# Altium schematic symbol library MYS-Library.SchLib: 107 symbols
Pins are listed as number, name and electrical type; pins without a type are passive.

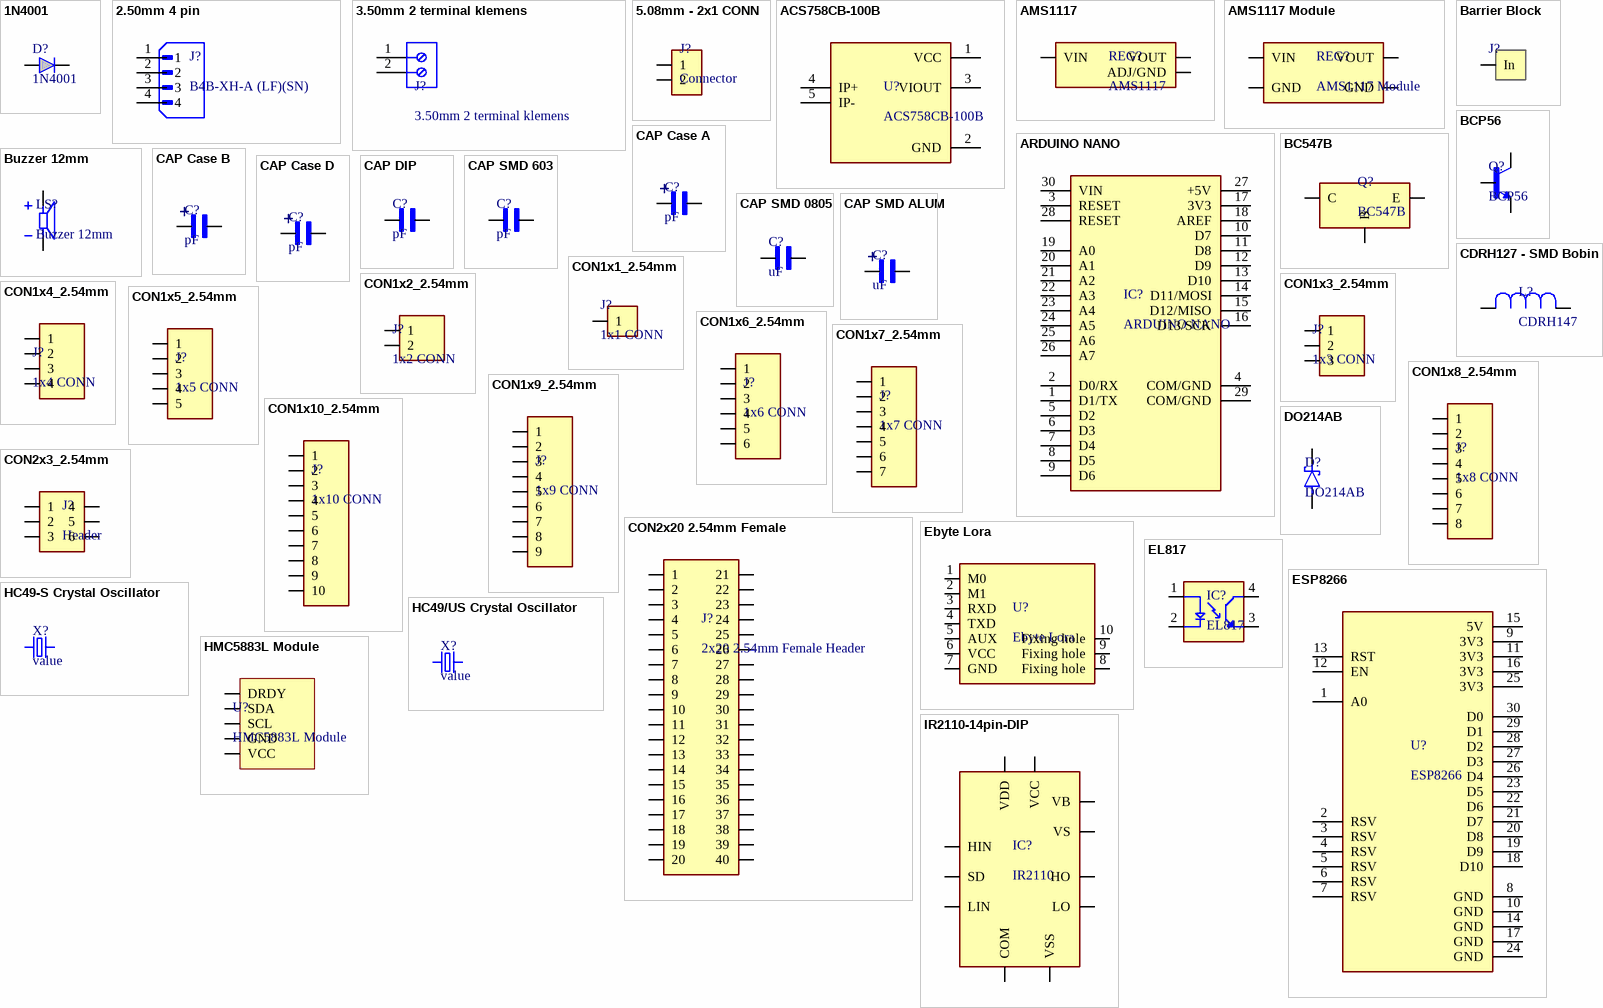
[diagram p0: symbols 1N4001 to IR2110-14pin-DIP]

## 1N4001
designator D?
Diode
footprint 1N4001
pins: A ANODE, C CATHODE

## 2.50mm 4 pin
designator J?, comment B4B-XH-A (LF)(SN)
footprint B4B-XH-A (LF)(SN)
pins: 1, 2, 3, 4

## 3.50mm 2 terminal klemens
designator J?
footprint 3.50mm 2 terminal klemens
pins: 1, 2

## 5.08mm - 2x1 CONN
designator J?, comment Connector
Konnektör
footprint 5.08mm-2 connector
pins: 1, 2

## ACS758CB-100B
designator U?
footprint ACS758CB-100B
pins: 1 VCC, 2 GND, 3 VIOUT, 4 IP+, 5 IP-

## AMS1117
designator REG?
footprint SOT-223
pins: 1 ADJ/GND (power), 2 VOUT, 3 VIN

## AMS1117 Module
designator REG?
footprint AMS117 Module
pins: 1 GND, 2 VOUT, 3 VIN, 4 GND

## ARDUINO NANO
designator IC?
footprint ARDUINO NANO
pins: 1 D1/TX, 2 D0/RX, 3 RESET, 4 COM/GND, 5 D2, 6 D3, 7 D4, 8 D5, 9 D6, 10 D7, 11 D8, 12 D9, 13 D10, 14 D11/MOSI, 15 D12/MISO, 16 D13/SCK, 17 3V3, 18 AREF, 19 A0, 20 A1, 21 A2, 22 A3, 23 A4, 24 A5, 25 A6, 26 A7, 27 +5V, 28 RESET, 29 COM/GND, 30 VIN

## Barrier Block
designator J?  (value not drawn)
footprint Barrier Block
pins: 0 In

## BC547B
designator Q?
footprint TO-226 TO-92
pins: 1 C, 2 B, 3 E

## BCP56
designator Q?
footprint SOT-223
pins: 1 B, 2 C, 3 E, 4 C

## Buzzer 12mm
designator LS?
footprint Buzzer 12V
pins: N, P

## CAP Case A
designator C?, comment pF
footprint CAP CASE A
pins: 1, 2
text: +

## CAP Case B
designator C?, comment pF
footprint CAP CASE B
pins: 1, 2
text: +

## CAP Case D
designator C?, comment pF
footprint CAP CASE D
pins: 1, 2
text: +

## CAP DIP
designator C?, comment pF
footprint CER-DIP-CAP
footprint CER-DIP-CAP-2
pins: 1, 2

## CAP SMD 603
designator C?, comment pF
footprint 0603 SMD CAP
pins: 1, 2

## CAP SMD 0805
designator C?, comment uF
footprint 0805 SMD CAP
pins: 1, 2

## CAP SMD ALUM
designator C?, comment uF
footprint SMD CAP ALUM (10x10mm)
pins: 1, 2
text: +

## CDRH127 - SMD Bobin
designator L?, comment CDRH147
footprint CDRH147
pins: 1, 2

## CON1x1_2.54mm
designator J?, comment 1x1 CONN
footprint CON1x1_2.54MM
pins: 1

## CON1x2_2.54mm
designator J?, comment 1x2 CONN
footprint CON1x2_2.54MM
pins: 1, 2

## CON1x3_2.54mm
designator J?, comment 1x3 CONN
footprint CON1x3_2.54MM
pins: 1, 2, 3

## CON1x4_2.54mm
designator J?, comment 1x4 CONN
footprint CON1x4_2.54MM
pins: 1, 2, 3, 4

## CON1x5_2.54mm
designator J?, comment 1x5 CONN
footprint CON1x5_2.54MM
pins: 1, 2, 3, 4, 5

## CON1x6_2.54mm
designator J?, comment 1x6 CONN
footprint CON1x6_2.54MM
pins: 1, 2, 3, 4, 5, 6

## CON1x7_2.54mm
designator J?, comment 1x7 CONN
footprint CON1x7_2.54MM
pins: 1, 2, 3, 4, 5, 6, 7

## CON1x8_2.54mm
designator J?, comment 1x8 CONN
footprint CON1x8_2.54MM
pins: 1, 2, 3, 4, 5, 6, 7, 8

## CON1x9_2.54mm
designator J?, comment 1x9 CONN
footprint CON1x9_2.54MM
pins: 1, 2, 3, 4, 5, 6, 7, 8, 9

## CON1x10_2.54mm
designator J?, comment 1x10 CONN
footprint CON1x10_2.54MM
pins: 1, 2, 3, 4, 5, 6, 7, 8, 9, 10

## CON2x3_2.54mm
designator J?, comment Header
footprint CON2x3_2.54MM
pins: 1, 2, 3, 4, 5, 6

## CON2x20 2.54mm Female
designator J?, comment 2x20 2.54mm Female Header
footprint 2x20 2.54mm Header Female
pins: 1, 2, 3, 4, 5, 6, 7, 8, 9, 10, 11, 12, 13, 14, 15, 16, 17, 18, 19, 20, 21, 22, 23, 24, 25, 26, 27, 28, 29, 30, 31, 32, 33, 34, 35, 36, 37, 38, 39, 40

## DO214AB
designator D?
footprint DO214AB
pins: A, C K

## Ebyte Lora
designator U?
footprint Ebyte LoRa Modul
pins: 1 M0, 2 M1, 3 RXD, 4 TXD, 5 AUX, 6 VCC, 7 GND, 8 Fixing hole "Fixing hole, bağlantı yapılmayacak.", 9 Fixing hole "Fixing hole, bağlantı yapılmayacak.", 10 Fixing hole "Fixing hole, bağlantı yapılmayacak."

## EL817
designator IC?
footprint DIP-4
pins: 1 A, 2 C, 3 ET, 4 CT

## ESP8266
designator U?
footprint ESP8266 Module
pins: 1 A0, 2 RSV, 3 RSV, 4 RSV, 5 RSV, 6 RSV, 7 RSV, 8 GND, 9 3V3, 10 GND, 11 3V3, 12 EN, 13 RST, 14 GND, 15 5V, 16 3V3, 17 GND, 18 D10, 19 D9, 20 D8, 21 D7, 22 D6, 23 D5, 24 GND, 25 3V3, 26 D4, 27 D3, 28 D2, 29 D1, 30 D0

## HC49-S Crystal Oscillator
designator X?, comment value
footprint HC49-S Crystal Oscillator
pins: 1, 2

## HC49/US Crystal Oscillator
designator X?, comment value
footprint HC49/US Crystal Oscillator
pins: 1, 2

## HMC5883L Module
designator U?
footprint HMC5883L Module
pins: 1 DRDY, 2 SDA, 3 SCL, 4 GND, 5 VCC

## IR2110-14pin-DIP
designator IC?, comment IR2110
footprint DIP-14
pins: 1 LO, 2 COM, 3 VCC (power), 5 VS (power), 6 VB (power), 7 HO, 9 VDD (power), 10 HIN, 11 SD, 12 LIN, 13 VSS (power)

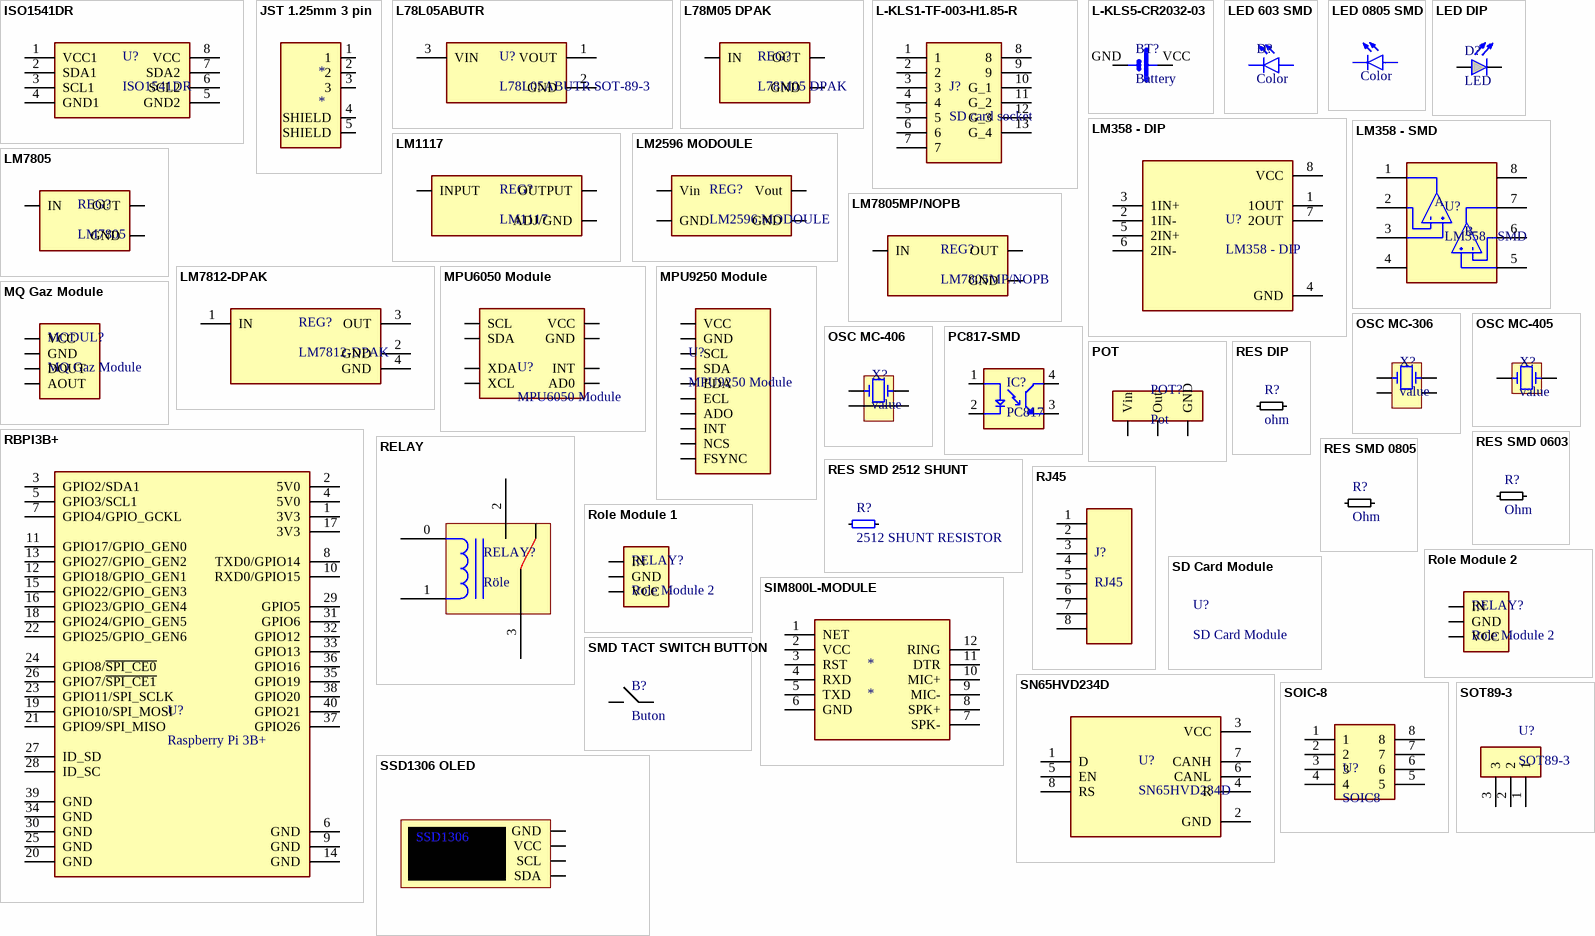
[diagram p1: symbols ISO1541DR to SSD1306 OLED]

## ISO1541DR
designator U?
footprint SOIC-8
pins: 1 VCC1, 2 SDA1, 3 SCL1, 4 GND1, 5 GND2, 6 SCL2, 7 SDA2, 8 VCC

## JST 1.25mm 3 pin
designator *
footprint JST 1.25mm 3 pin
pins: 1, 2, 3, 4 SHIELD, 5 SHIELD

## L78L05ABUTR
designator U?, comment L78L05ABUTR SOT-89-3
footprint SOT89-3
pins: 1 VOUT, 2 GND, 3 VIN

## L78M05 DPAK
designator REG?
footprint TO-252 DPAK
pins: 1 IN, 3 OUT, 4 GND (power)

## L-KLS1-TF-003-H1.85-R
designator J?, comment SD card socket
footprint L-KLS1-TF-003-H1.85-R
pins: 1, 2, 3, 4, 5, 6, 7, 8, 9, 10 G_1, 11 G_2, 12 G_3, 13 G_4

## L-KLS5-CR2032-03
designator BT?, comment Battery
footprint L-KLS5-CR2032-03
pins: GND NEG, VCC POS

## LED 603 SMD
designator D?, comment Color
footprint 0603 SMD LED
pins: A, C

## LED 0805 SMD
designator D?, comment Color
footprint 0805 SMD LED
pins: A, C

## LED DIP
designator D?, comment LED
footprint LED DIP
pins: A, C

## LM358 - DIP
designator U?
footprint PDIP-8
pins: 1 1OUT, 2 1IN-, 3 1IN+, 4 GND, 5 2IN+, 6 2IN-, 7 2OUT, 8 VCC

## LM358 - SMD
designator U?
footprint SOIC-8
pins: 1 OUT1, 2 IN1-, 3 IN1+, 4 V-, 5 IN2+, 6 IN2-, 7 OUT2, 8 V+
text: A; B

## LM1117
designator REG?
footprint TO-220
pins: 1 ADJ/GND (power), 2 OUTPUT, 3 INPUT

## LM2596 MODOULE
designator REG?
footprint LM2596 MODULE
pins: 0 GND, 1 Vout, 2 GND, 3 Vin

## LM7805
designator REG?
footprint TO-220
pins: 1 IN, 2 GND (power), 3 OUT

## LM7805MP/NOPB
designator REG?
footprint SOT-223
pins: 1 IN (power), 2 GND, 3 OUT

## LM7812-DPAK
designator REG?
footprint TO-263-3
pins: 1 IN, 2 GND, 3 OUT, 4 GND

## MPU6050 Module
designator U?
footprint MPU6050 MODULE
footprint MPU6050 MODULE_PITCH
pins: AD0, GND, INT, SCL, SDA, VCC, XCL, XDA

## MPU9250 Module
designator U?
footprint MPU9250 Module
footprint MPU9250 Module_PITCH
pins: 0 FSYNC, 1 NCS, 2 INT, 3 ADO, 4 ECL, 5 EDA, 6 SDA, 7 SCL, 8 GND, 9 VCC

## MQ Gaz Module
designator MODUL?
footprint MQ Gaz Module
footprint MQ Gaz Module PITCH
pins: 1 VCC, 2 GND, 3 DOUT, 4 AOUT

## OSC MC-306
designator X?, comment value
32.768Khz
footprint 4-SOJ MC-306 (32.768 kHz ±100ppm Crystal 12.5pF 35 kOhms 4-SOJ, 5.50mm pitch)
pins: 1, 2, 3, 4

## OSC MC-405
designator X?, comment value
32.768Khz
footprint 4-SOJ MC-405 (32.768 kHz ±20ppm Crystal 12.5pF 50 kOhms 4-SOJ, 2.29mm pitch)
pins: 1, 2

## OSC MC-406
designator X?, comment value
32.768Khz
footprint 4-SOJ MC-406 (32.768 kHz ±20ppm Crystal 12.5pF 50 kOhms 4-SOJ, 2.29mm pitch / (mm) 8.00x3.80x2.50)
pins: 1, 2, 3, 4

## PC817-SMD
designator IC?, comment PC817
footprint SMD-4 (PC817 - SMD)
pins: 1 A, 2 C, 3 ET, 4 CT

## POT
designator POT?, comment Pot
footprint POT
pins: 1 Vin, 2 Out, 3 GND

## RBPI3B+
designator U?, comment Raspberry Pi 3B+
footprint RBPIWSOCKET
footprint RBPI3B+
pins: 1 3V3, 2 5V0, 3 GPIO2/SDA1, 4 5V0, 5 GPIO3/SCL1, 6 GND, 7 GPIO4/GPIO_GCKL, 8 TXD0/GPIO14, 9 GND, 10 RXD0/GPIO15, 11 GPIO17/GPIO_GEN0, 12 GPIO18/GPIO_GEN1, 13 GPIO27/GPIO_GEN2, 14 GND, 15 GPIO22/GPIO_GEN3, 16 GPIO23/GPIO_GEN4, 17 3V3, 18 GPIO24/GPIO_GEN5, 19 GPIO10/SPI_MOSI, 20 GND, 21 GPIO9/SPI_MISO, 22 GPIO25/GPIO_GEN6, 23 GPIO11/SPI_SCLK, 24 GPIO8/~{SPI_CE0}, 25 GND, 26 GPIO7/~{SPI_CE1}, 27 ID_SD, 28 ID_SC, 29 GPIO5, 30 GND, 31 GPIO6, 32 GPIO12, 33 GPIO13, 34 GND, 35 GPIO19, 36 GPIO16, 37 GPIO26, 38 GPIO20, 39 GND, 40 GPIO21

## RELAY
designator RELAY?, comment Röle
pins: 0, 1, 2, 3

## RES DIP
designator R?, comment ohm
footprint RES DIP
pins: 1, 2

## RES SMD 0603
designator R?, comment Ohm
footprint 0603 SMD RES
pins: 1, 2

## RES SMD 0805
designator R?, comment Ohm
footprint 0805 SMD RES
pins: 1, 2

## RES SMD 2512 SHUNT
designator R?, comment 2512 SHUNT RESISTOR
footprint RES 2512 SMD
pins: 1, 2

## RJ45
designator J?
footprint RJ45
pins: 1, 2, 3, 4, 5, 6, 7, 8

## Role Module 1
designator RELAY?, comment Role Module 2
footprint ROLE MODULE 2
pins: 1 IN, 2 GND, 3 VCC

## Role Module 2
designator RELAY?
footprint Role Module 1
pins: 1 IN, 2 GND, 3 VCC

## SD Card Module
designator U?

## SIM800L-MODULE
designator *
footprint SIM800L-MODULE
pins: 1 NET, 2 VCC, 3 RST, 4 RXD, 5 TXD, 6 GND, 7 SPK-, 8 SPK+, 9 MIC-, 10 MIC+, 11 DTR, 12 RING

## SMD TACT SWITCH BUTTON
designator B?, comment Buton
footprint SMD TACT SWITCH BUTTON
pins: 0, 1

## SN65HVD234D
designator U?
footprint SOIC-8
pins: 1 D, 2 GND, 3 VCC, 4 R, 5 EN, 6 CANL, 7 CANH, 8 RS

## SOIC-8
designator U?, comment SOIC8
footprint SOIC-8
pins: 1, 2, 3, 4, 5, 6, 7, 8

## SOT89-3
designator U?
pins: 1, 2, 3

## SSD1306 OLED
designator IC?, comment SSD1306 128*32 0.91"
footprint SSD1306 128x32
footprint SSD1306 128x64
pins: 1 GND, 2 VCC, 3 SCL, 4 SDA
text: SSD1306

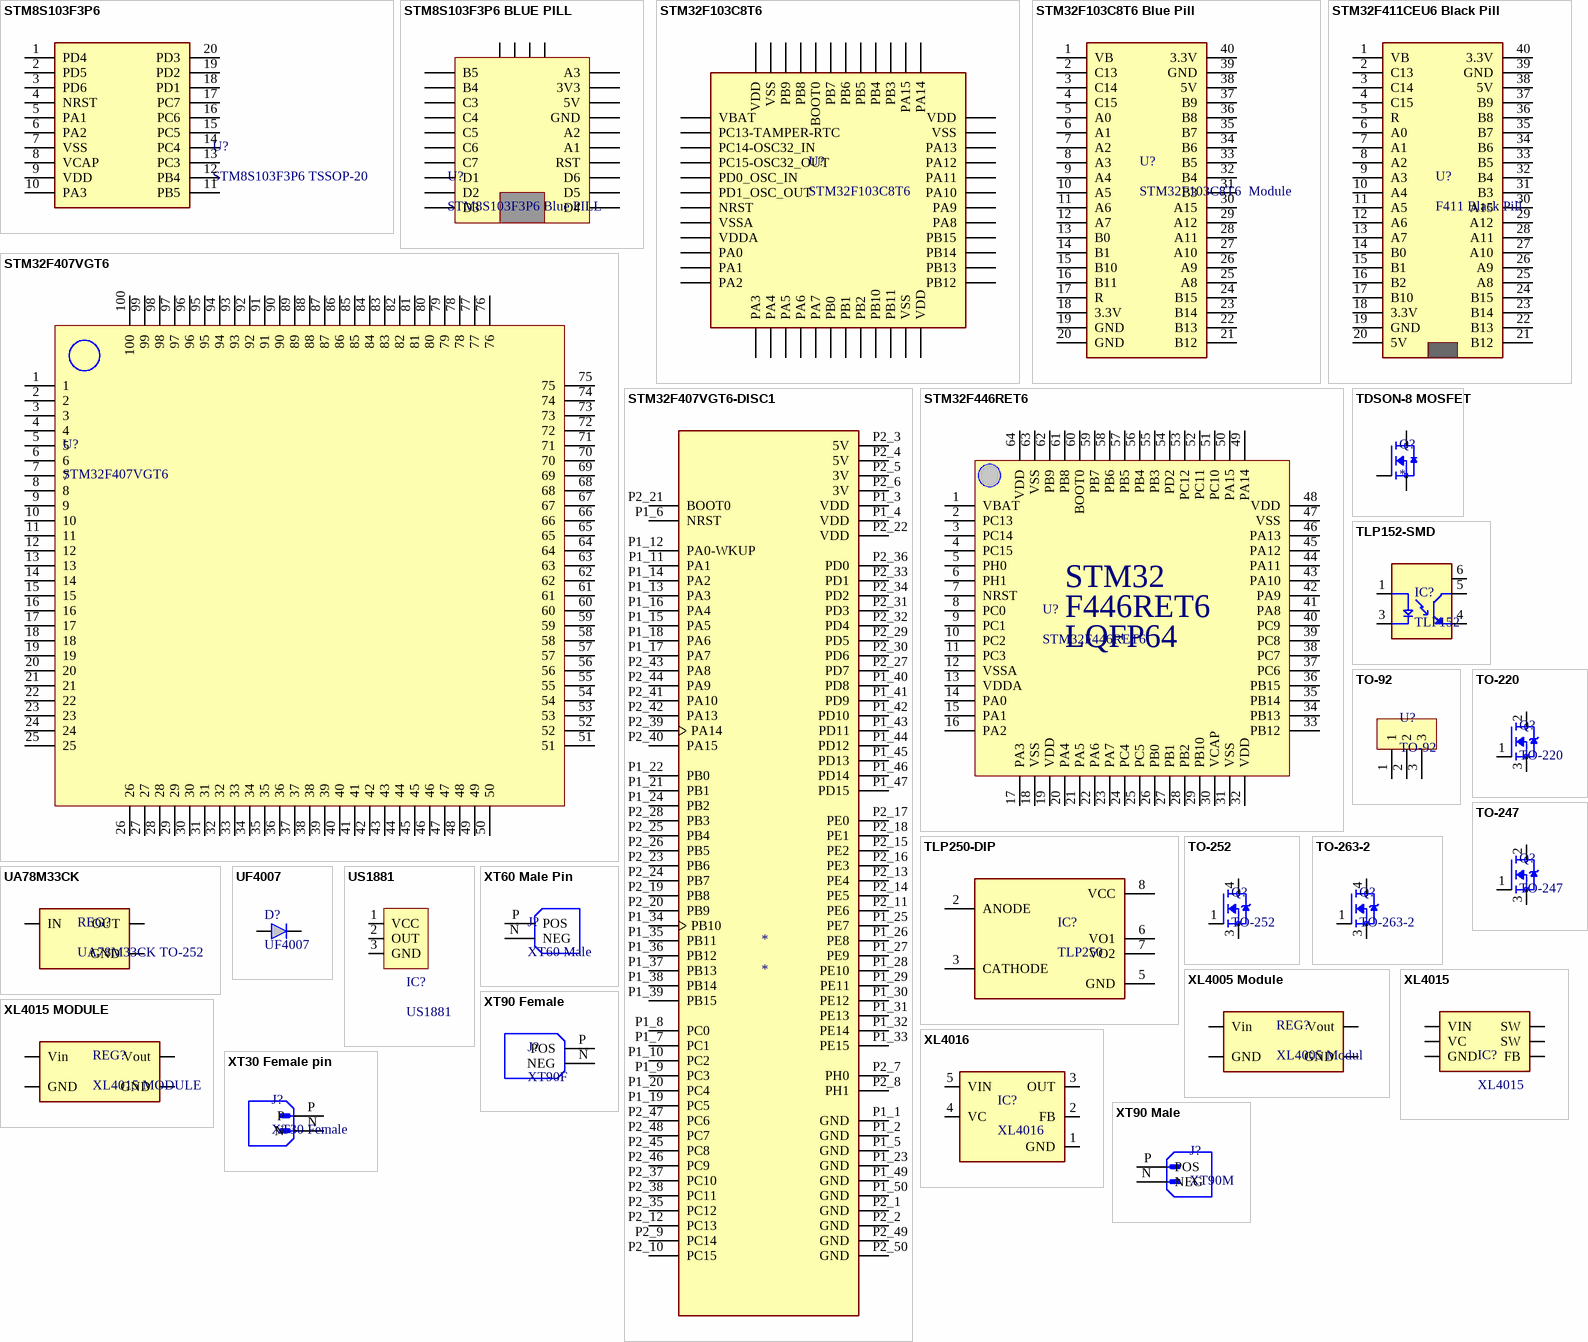
[diagram p2: symbols STM8S103F3P6 to XT90 Male]

## STM8S103F3P6
designator U?, comment STM8S103F3P6 TSSOP-20
footprint TSSOP-20
pins: 1 PD4, 2 PD5, 3 PD6, 4 NRST, 5 PA1, 6 PA2, 7 VSS, 8 VCAP, 9 VDD, 10 PA3, 11 PB5, 12 PB4, 13 PC3, 14 PC4, 15 PC5, 16 PC6, 17 PC7, 18 PD1, 19 PD2, 20 PD3

## STM8S103F3P6 BLUE PILL
designator U?, comment STM8S103F3P6 Blue PILL
footprint STM8S103F3P6 BLUE PILL
pins: 1 B5, 2 B4, 3 C3, 4 C4, 5 C5, 6 C6, 7 C7, 8 D1, 9 D2, 10 D3, 11 A3, 12 3V3, 13 5V, 14 GND, 15 A2, 16 A1, 17 RST, 18 D6, 19 D5, 20 D4

## STM32F103C8T6
designator U?
footprint LQFP-48
pins: 1 VBAT, 2 PC13-TAMPER-RTC, 3 PC14-OSC32_IN, 4 PC15-OSC32_OUT, 5 PD0_OSC_IN, 6 PD1_OSC_OUT, 7 NRST, 8 VSSA, 9 VDDA, 10 PA0, 11 PA1, 12 PA2, 13 PA3, 14 PA4, 15 PA5, 16 PA6, 17 PA7, 18 PB0, 19 PB1, 20 PB2, 21 PB10, 22 PB11, 23 VSS, 24 VDD, 25 PB12, 26 PB13, 27 PB14, 28 PB15, 29 PA8, 30 PA9, 31 PA10, 32 PA11, 33 PA12, 34 PA13, 35 VSS, 36 VDD, 37 PA14, 38 PA15, 39 PB3, 40 PB4, 41 PB5, 42 PB6, 43 PB7, 44 BOOT0, 45 PB8, 46 PB9, 47 VSS, 48 VDD

## STM32F103C8T6 Blue Pill
designator U?, comment STM32F103C8T6  Module
footprint STM32F103C8T6 Blue Pill
footprint STM32F103C8T6 Blue Pill PITCH
pins: 1 VB, 2 C13, 3 C14, 4 C15, 5 A0, 6 A1, 7 A2, 8 A3, 9 A4, 10 A5, 11 A6, 12 A7, 13 B0, 14 B1, 15 B10, 16 B11, 17 R, 18 3.3V, 19 GND, 20 GND, 21 B12, 22 B13, 23 B14, 24 B15, 25 A8, 26 A9, 27 A10, 28 A11, 29 A12, 30 A15, 31 B3, 32 B4, 33 B5, 34 B6, 35 B7, 36 B8, 37 B9, 38 5V, 39 GND, 40 3.3V

## STM32F407VGT6
designator U?
footprint LQFP-100
pins: 1, 2, 3, 4, 5, 6, 7, 8, 9, 10, 11, 12, 13, 14, 15, 16, 17, 18, 19, 20, 21, 22, 23, 24, 25, 26, 27, 28, 29, 30, 31, 32, 33, 34, 35, 36, 37, 38, 39, 40, 41, 42, 43, 44, 45, 46, 47, 48, 49, 50, 51, 52, 53, 54, 55, 56, 57, 58, 59, 60, 61, 62, 63, 64, 65, 66, 67, 68, 69, 70, 71, 72, 73, 74, 75, 76, 77, 78, 79, 80, 81, 82, 83, 84, 85, 86, 87, 88, 89, 90, 91, 92, 93, 94, 95, 96, 97, 98, 99, 100

## STM32F407VGT6-DISC1
designator *
footprint STM32F407VGT6-DISC1
pins: P1_1 GND, P1_2 GND, P1_3 VDD, P1_4 VDD, P1_5 GND, P1_6 NRST, P1_7 PC1, P1_8 PC0, P1_9 PC3, P1_10 PC2, P1_11 PA1, P1_12 PA0-WKUP, P1_13 PA3, P1_14 PA2, P1_15 PA5, P1_16 PA4, P1_17 PA7, P1_18 PA6, P1_19 PC5, P1_20 PC4, P1_21 PB1, P1_22 PB0, P1_23 GND, P1_24 PB2, P1_25 PE7, P1_26 PE8, P1_27 PE9, P1_28 PE10, P1_29 PE11, P1_30 PE12, P1_31 PE13, P1_32 PE14, P1_33 PE15, P1_34 PB10, P1_35 PB11, P1_36 PB12, P1_37 PB13, P1_38 PB14, P1_39 PB15, P1_40 PD8, P1_41 PD9, P1_42 PD10, P1_43 PD11, P1_44 PD12, P1_45 PD13, P1_46 PD14, P1_47 PD15, P1_49 GND, P1_50 GND, P2_1 GND, P2_2 GND, P2_3 5V, P2_4 5V, P2_5 3V, P2_6 3V, P2_7 PH0, P2_8 PH1, P2_9 PC14, P2_10 PC15, P2_11 PE6, P2_12 PC13, P2_13 PE4, P2_14 PE5, P2_15 PE2, P2_16 PE3, P2_17 PE0, P2_18 PE1, P2_19 PB8, P2_20 PB9, P2_21 BOOT0, P2_22 VDD, P2_23 PB6, P2_24 PB7, P2_25 PB4, P2_26 PB5, P2_27 PD7, P2_28 PB3, P2_29 PD5, P2_30 PD6, P2_31 PD3, P2_32 PD4, P2_33 PD1, P2_34 PD2, P2_35 PC12, P2_36 PD0, P2_37 PC10, P2_38 PC11, P2_39 PA14, P2_40 PA15, P2_41 PA10, P2_42 PA13, P2_43 PA8, P2_44 PA9, P2_45 PC8, P2_46 PC9, P2_47 PC6, P2_48 PC7, P2_49 GND, P2_50 GND

## STM32F411CEU6 Black Pill
designator U?, comment F411 Black Pill
STM32F411CEU Black Pill
footprint STM32F411 Black Pill (STM32F411CEU6 Black Pill)
pins: 1 VB, 2 C13, 3 C14, 4 C15, 5 R, 6 A0, 7 A1, 8 A2, 9 A3, 10 A4, 11 A5, 12 A6, 13 A7, 14 B0, 15 B1, 16 B2, 17 B10, 18 3.3V, 19 GND, 20 5V, 21 B12, 22 B13, 23 B14, 24 B15, 25 A8, 26 A9, 27 A10, 28 A11, 29 A12, 30 A15, 31 B3, 32 B4, 33 B5, 34 B6, 35 B7, 36 B8, 37 B9, 38 5V, 39 GND, 40 3.3V

## STM32F446RET6
designator U?
footprint LQFP-64
pins: 1 VBAT, 2 PC13, 3 PC14, 4 PC15, 5 PH0, 6 PH1, 7 NRST, 8 PC0, 9 PC1, 10 PC2, 11 PC3, 12 VSSA, 13 VDDA, 14 PA0, 15 PA1, 16 PA2, 17 PA3, 18 VSS, 19 VDD, 20 PA4, 21 PA5, 22 PA6, 23 PA7, 24 PC4, 25 PC5, 26 PB0, 27 PB1, 28 PB2, 29 PB10, 30 VCAP, 31 VSS, 32 VDD, 33 PB12, 34 PB13, 35 PB14, 36 PB15, 37 PC6, 38 PC7, 39 PC8, 40 PC9, 41 PA8, 42 PA9, 43 PA10, 44 PA11, 45 PA12, 46 PA13, 47 VSS, 48 VDD, 49 PA14, 50 PA15, 51 PC10, 52 PC11, 53 PC12, 54 PD2, 55 PB3, 56 PB4, 57 PB5, 58 PB6, 59 PB7, 60 BOOT0, 61 PB8, 62 PB9, 63 VSS, 64 VDD
text: STM32; F446RET6; LQFP64

## TDSON-8 MOSFET
designator Q?
footprint TDSON-8
pins: 1 S, 2 S, 3 S, 4 G, 5 D

## TLP152-SMD
designator IC?, comment TLP152
footprint SOIC-6
pins: 1 A, 3 C, 4 GND, 5 Vo, 6 Vcc

## TLP250-DIP
designator IC?, comment TLP250
footprint DIP-8
footprint DIP-8 SOCKET
pins: 2 ANODE, 3 CATHODE, 5 GND (power), 6 VO1, 7 VO2, 8 VCC (power)

## TO-92
designator U?
footprint TO-226 TO-92
pins: 1, 2, 3

## TO-220
designator Q?
MOSFET
footprint TO-220
footprint TO-220 HEATSINK
pins: 1 G, 2 D, 3 S

## TO-247
designator Q?
footprint TO-247
pins: 1 G, 2 D, 3 S

## TO-252
designator Q?
MOSFET
footprint TO-252 DPAK
pins: 1 G, 3 S, 4 D

## TO-263-2
designator Q?
MOSFET SMD
footprint TO-263-2
pins: 1 G, 3 S, 4 D

## UA78M33CK
designator REG?, comment UA78M33CK TO-252
footprint TO-252 DPAK
pins: 1 IN, 3 OUT, 4 GND (power)

## UF4007
designator D?
footprint UF4007
pins: A ANODE, C CATHODE

## US1881
designator IC?
footprint UA
pins: 1 VCC, 2 OUT, 3 GND

## XL4005 Module
designator REG?, comment XL4005 Modul
footprint XL4005 MODULE PITCH
footprint XL4005 MODULE
pins: 0 GND, 1 Vout, 2 GND, 3 Vin

## XL4015
designator IC?
footprint TO-263-5
pins: 1 GND, 2 FB, 3 SW, 4 VC, 5 VIN, 6 SW

## XL4015 MODULE
designator REG?
footprint XL4015 MODULE
pins: 0 GND, 1 Vout, 2 GND, 3 Vin

## XL4016
designator IC?
footprint TO-220-5
footprint ARDUINO NANO (Footprint not found)
pins: 1 GND (power), 2 FB, 3 OUT, 4 VC, 5 VIN (power)

## XT30 Female pin
designator J?, comment XT30 Female
footprint XT30 Female Pin
pins: N (power), P (power)

## XT60 Male Pin
designator J?, comment XT60 Male
footprint XT60 Male Pin
pins: N NEG, P POS

## XT90 Female
designator J?, comment XT90F
footprint XT90F
pins: N NEG, P POS

## XT90 Male
designator J?, comment XT90M
footprint XT90M
pins: N NEG, P POS